# Altium integrated library Philips Microcontroller 8-Bit.IntLib: 472 symbols (part 17 of 17)
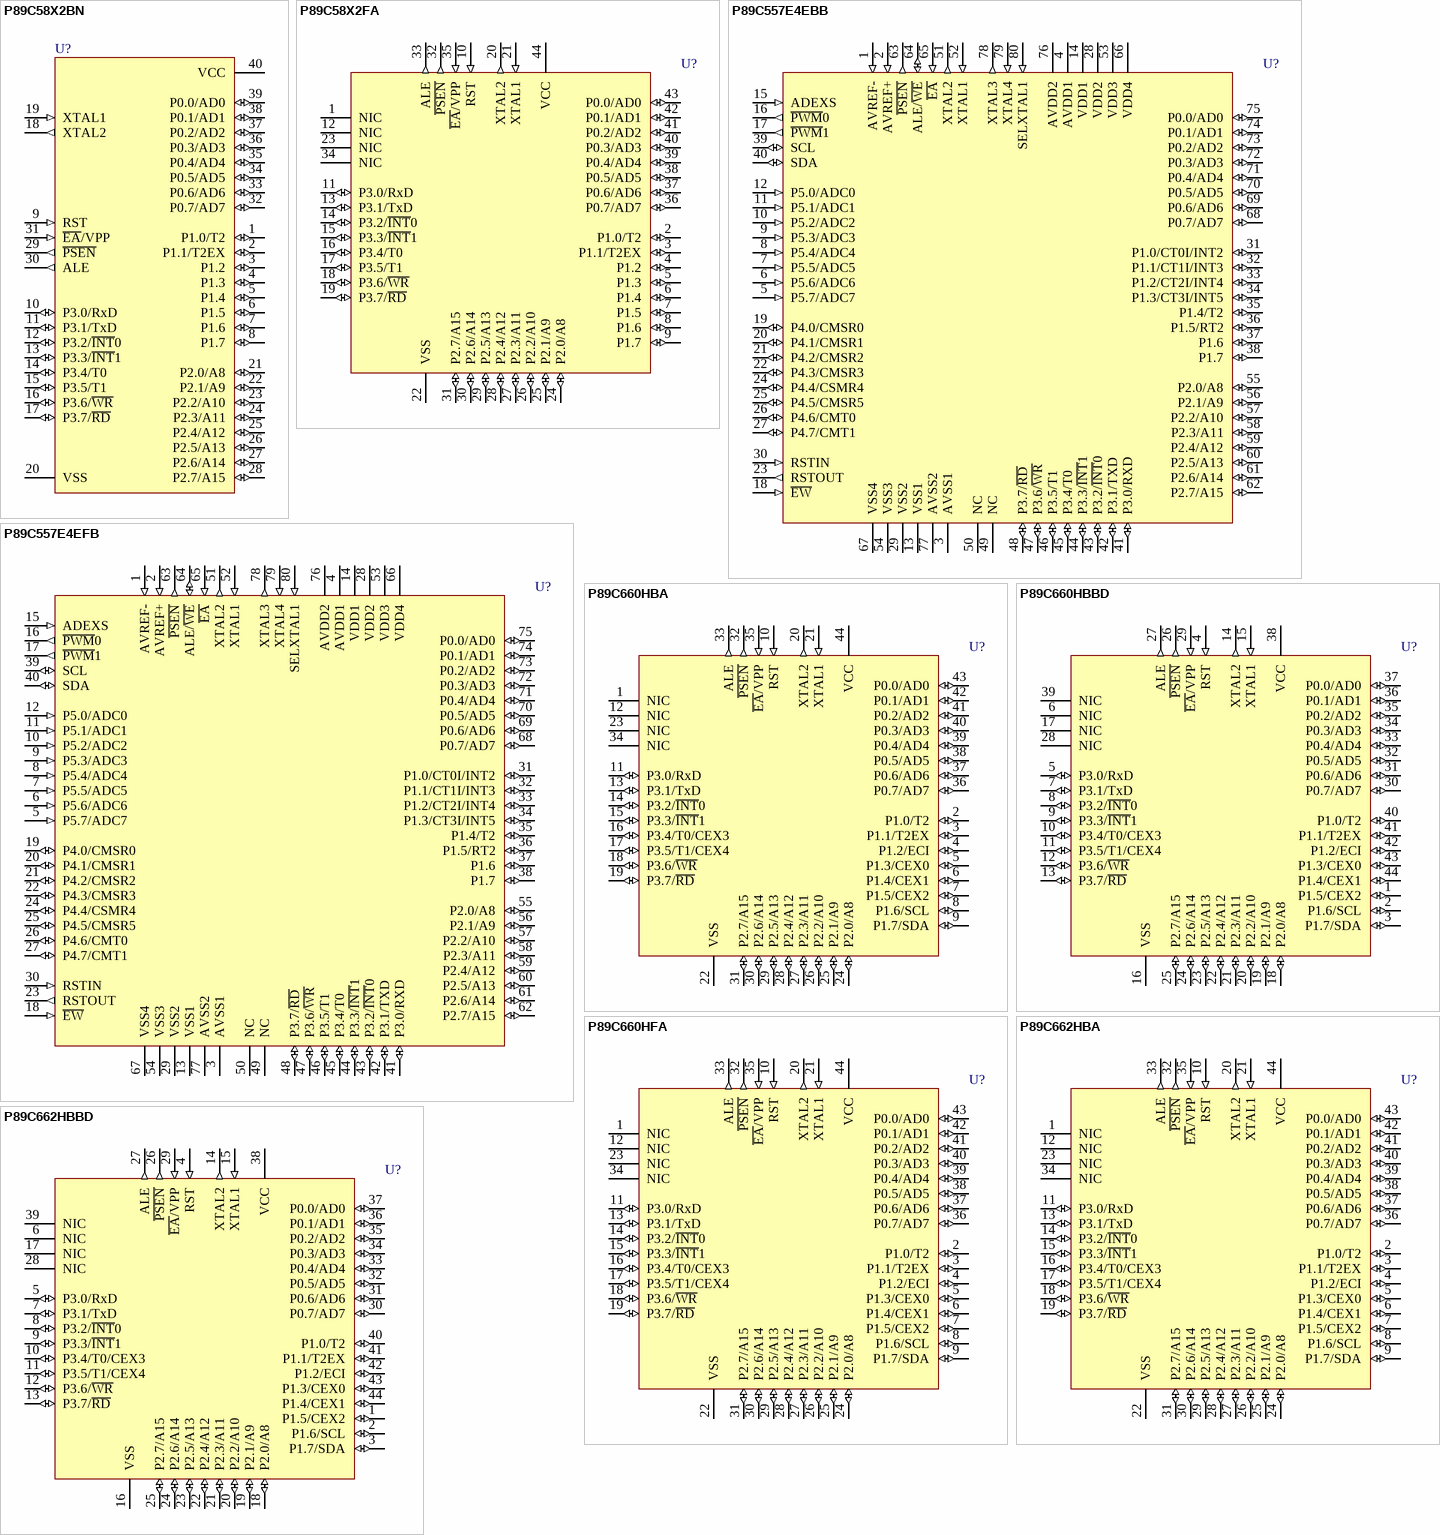
[diagram p62: symbols P89C58X2BN to P89C662HBBD]

## P89C660HBBD
designator U?
80C51 8-Bit Flash Microcontroller Family, 16 kB ISP/IAP Flash with 512 B RAM; Published: 21-May-2003; LatestRevisionDate: 13-Apr-2006; LatestRevisionNote: IPC-7351 Footprint Added.; DatasheetVersion: 28-Oct-2002; PackageVersion: Jan-2002; PackageReference: SOT389-1; Publisher: Altium Limited; PackageDescription: 44-Pin Thin Quad Flat Pack 0.8 mm Pitch; Code_JEDEC: MO-026; ComponentLink1Description: Manufacturer Link; ComponentLink1URL: http://www-us2.semiconductors.philips.com/; ComponentLink2Description: Datasheet; ComponentLink2URL: http://www.semiconductors.philips.com/acrobat/datasheets/P89C660_662_664_668_4.pdf
footprint SOT389-1_N (Thin QFP, 44-Leads, Body 10x10mm, Pitch 0.8mm, IPC Medium Density)
footprint SOT389-1_L (Thin QFP, 44-Leads, Body 10x10mm, Pitch 0.8mm, IPC High Density)
footprint SOT389-1_M (Thin QFP, 44-Leads, Body 10x10mm, Pitch 0.8mm, IPC Low Density)
pins: 1 P1.5/CEX2 (io), 2 P1.6/SCL (io), 3 P1.7/SDA (io), 4 RST (in), 5 P3.0/RxD (io), 6 NIC, 7 P3.1/TxD (io), 8 P3.2/~{INT}0 (io), 9 P3.3/~{INT}1 (io), 10 P3.4/T0/CEX3 (io), 11 P3.5/T1/CEX4 (io), 12 P3.6/~{WR} (io), 13 P3.7/~{RD} (io), 14 XTAL2 (out), 15 XTAL1 (in), 16 VSS (power), 17 NIC, 18 P2.0/A8 (io), 19 P2.1/A9 (io), 20 P2.2/A10 (io), 21 P2.3/A11 (io), 22 P2.4/A12 (io), 23 P2.5/A13 (io), 24 P2.6/A14 (io), 25 P2.7/A15 (io), 26 ~{PSEN} (out), 27 ALE (out), 28 NIC, 29 ~{EA}/VPP (in), 30 P0.7/AD7 (io), 31 P0.6/AD6 (io), 32 P0.5/AD5 (io), 33 P0.4/AD4 (io), 34 P0.3/AD3 (io), 35 P0.2/AD2 (io), 36 P0.1/AD1 (io), 37 P0.0/AD0 (io), 38 VCC (power), 39 NIC, 40 P1.0/T2 (io), 41 P1.1/T2EX (io), 42 P1.2/ECI (io), 43 P1.3/CEX0 (io), 44 P1.4/CEX1 (io)

## P89C660HFA
designator U?
80C51 8-Bit Flash Microcontroller Family, 16 kB ISP/IAP Flash with 512 B RAM; Published: 21-May-2003; LatestRevisionDate: 13-Apr-2006; LatestRevisionNote: IPC-7351 Footprint Added.; DatasheetVersion: 28-Oct-2002; PackageVersion: Jan-2000; PackageReference: SOT187-2; Publisher: Altium Limited; PackageDescription: 44-Pin Leaded Chip Carrier 1.27 mm Pitch; Code_JEDEC: MO-047AC; Code_IPC: PLCC-44; ComponentLink1Description: Manufacturer Link; ComponentLink1URL: http://www-us2.semiconductors.philips.com/; ComponentLink2Description: Datasheet; ComponentLink2URL: http://www.semiconductors.philips.com/acrobat/datasheets/P89C660_662_664_668_4.pdf
footprint SOT187-2_N (Leaded Chip Carrier, 44-Leads, Body 16.6x16.6mm, Pitch 1.27mm, IPC Medium Density)
footprint SOT187-2_L (Leaded Chip Carrier, 44-Leads, Body 16.6x16.6mm, Pitch 1.27mm, IPC High Density)
footprint SOT187-2_M (Leaded Chip Carrier, 44-Leads, Body 16.6x16.6mm, Pitch 1.27mm, IPC Low Density)
pins: 1 NIC, 2 P1.0/T2 (io), 3 P1.1/T2EX (io), 4 P1.2/ECI (io), 5 P1.3/CEX0 (io), 6 P1.4/CEX1 (io), 7 P1.5/CEX2 (io), 8 P1.6/SCL (io), 9 P1.7/SDA (io), 10 RST (in), 11 P3.0/RxD (io), 12 NIC, 13 P3.1/TxD (io), 14 P3.2/~{INT}0 (io), 15 P3.3/~{INT}1 (io), 16 P3.4/T0/CEX3 (io), 17 P3.5/T1/CEX4 (io), 18 P3.6/~{WR} (io), 19 P3.7/~{RD} (io), 20 XTAL2 (out), 21 XTAL1 (in), 22 VSS (power), 23 NIC, 24 P2.0/A8 (io), 25 P2.1/A9 (io), 26 P2.2/A10 (io), 27 P2.3/A11 (io), 28 P2.4/A12 (io), 29 P2.5/A13 (io), 30 P2.6/A14 (io), 31 P2.7/A15 (io), 32 ~{PSEN} (out), 33 ALE (out), 34 NIC, 35 ~{EA}/VPP (in), 36 P0.7/AD7 (io), 37 P0.6/AD6 (io), 38 P0.5/AD5 (io), 39 P0.4/AD4 (io), 40 P0.3/AD3 (io), 41 P0.2/AD2 (io), 42 P0.1/AD1 (io), 43 P0.0/AD0 (io), 44 VCC (power)

## P89C662HBA
designator U?
80C51 8-Bit Flash Microcontroller Family, 32 kB ISP/IAP Flash with 1 kB RAM; Published: 21-May-2003; LatestRevisionDate: 13-Apr-2006; LatestRevisionNote: IPC-7351 Footprint Added.; DatasheetVersion: 28-Oct-2002; PackageVersion: Jan-2000; PackageReference: SOT187-2; Publisher: Altium Limited; PackageDescription: 44-Pin Leaded Chip Carrier 1.27 mm Pitch; Code_JEDEC: MO-047AC; Code_IPC: PLCC-44; ComponentLink1Description: Manufacturer Link; ComponentLink1URL: http://www-us2.semiconductors.philips.com/; ComponentLink2Description: Datasheet; ComponentLink2URL: http://www.semiconductors.philips.com/acrobat/datasheets/P89C660_662_664_668_4.pdf
footprint SOT187-2_N (Leaded Chip Carrier, 44-Leads, Body 16.6x16.6mm, Pitch 1.27mm, IPC Medium Density)
footprint SOT187-2_L (Leaded Chip Carrier, 44-Leads, Body 16.6x16.6mm, Pitch 1.27mm, IPC High Density)
footprint SOT187-2_M (Leaded Chip Carrier, 44-Leads, Body 16.6x16.6mm, Pitch 1.27mm, IPC Low Density)
pins: 1 NIC, 2 P1.0/T2 (io), 3 P1.1/T2EX (io), 4 P1.2/ECI (io), 5 P1.3/CEX0 (io), 6 P1.4/CEX1 (io), 7 P1.5/CEX2 (io), 8 P1.6/SCL (io), 9 P1.7/SDA (io), 10 RST (in), 11 P3.0/RxD (io), 12 NIC, 13 P3.1/TxD (io), 14 P3.2/~{INT}0 (io), 15 P3.3/~{INT}1 (io), 16 P3.4/T0/CEX3 (io), 17 P3.5/T1/CEX4 (io), 18 P3.6/~{WR} (io), 19 P3.7/~{RD} (io), 20 XTAL2 (out), 21 XTAL1 (in), 22 VSS (power), 23 NIC, 24 P2.0/A8 (io), 25 P2.1/A9 (io), 26 P2.2/A10 (io), 27 P2.3/A11 (io), 28 P2.4/A12 (io), 29 P2.5/A13 (io), 30 P2.6/A14 (io), 31 P2.7/A15 (io), 32 ~{PSEN} (out), 33 ALE (out), 34 NIC, 35 ~{EA}/VPP (in), 36 P0.7/AD7 (io), 37 P0.6/AD6 (io), 38 P0.5/AD5 (io), 39 P0.4/AD4 (io), 40 P0.3/AD3 (io), 41 P0.2/AD2 (io), 42 P0.1/AD1 (io), 43 P0.0/AD0 (io), 44 VCC (power)

## P89C662HBBD
designator U?
80C51 8-Bit Flash Microcontroller Family, 32 kB ISP/IAP Flash with 1 kB RAM; Published: 21-May-2003; LatestRevisionDate: 13-Apr-2006; LatestRevisionNote: IPC-7351 Footprint Added.; DatasheetVersion: 28-Oct-2002; PackageVersion: Jan-2002; PackageReference: SOT389-1; Publisher: Altium Limited; PackageDescription: 44-Pin Thin Quad Flat Pack 0.8 mm Pitch; Code_JEDEC: MO-026; ComponentLink1Description: Manufacturer Link; ComponentLink1URL: http://www-us2.semiconductors.philips.com/; ComponentLink2Description: Datasheet; ComponentLink2URL: http://www.semiconductors.philips.com/acrobat/datasheets/P89C660_662_664_668_4.pdf
footprint SOT389-1_N (Thin QFP, 44-Leads, Body 10x10mm, Pitch 0.8mm, IPC Medium Density)
footprint SOT389-1_L (Thin QFP, 44-Leads, Body 10x10mm, Pitch 0.8mm, IPC High Density)
footprint SOT389-1_M (Thin QFP, 44-Leads, Body 10x10mm, Pitch 0.8mm, IPC Low Density)
pins: 1 P1.5/CEX2 (io), 2 P1.6/SCL (io), 3 P1.7/SDA (io), 4 RST (in), 5 P3.0/RxD (io), 6 NIC, 7 P3.1/TxD (io), 8 P3.2/~{INT}0 (io), 9 P3.3/~{INT}1 (io), 10 P3.4/T0/CEX3 (io), 11 P3.5/T1/CEX4 (io), 12 P3.6/~{WR} (io), 13 P3.7/~{RD} (io), 14 XTAL2 (out), 15 XTAL1 (in), 16 VSS (power), 17 NIC, 18 P2.0/A8 (io), 19 P2.1/A9 (io), 20 P2.2/A10 (io), 21 P2.3/A11 (io), 22 P2.4/A12 (io), 23 P2.5/A13 (io), 24 P2.6/A14 (io), 25 P2.7/A15 (io), 26 ~{PSEN} (out), 27 ALE (out), 28 NIC, 29 ~{EA}/VPP (in), 30 P0.7/AD7 (io), 31 P0.6/AD6 (io), 32 P0.5/AD5 (io), 33 P0.4/AD4 (io), 34 P0.3/AD3 (io), 35 P0.2/AD2 (io), 36 P0.1/AD1 (io), 37 P0.0/AD0 (io), 38 VCC (power), 39 NIC, 40 P1.0/T2 (io), 41 P1.1/T2EX (io), 42 P1.2/ECI (io), 43 P1.3/CEX0 (io), 44 P1.4/CEX1 (io)

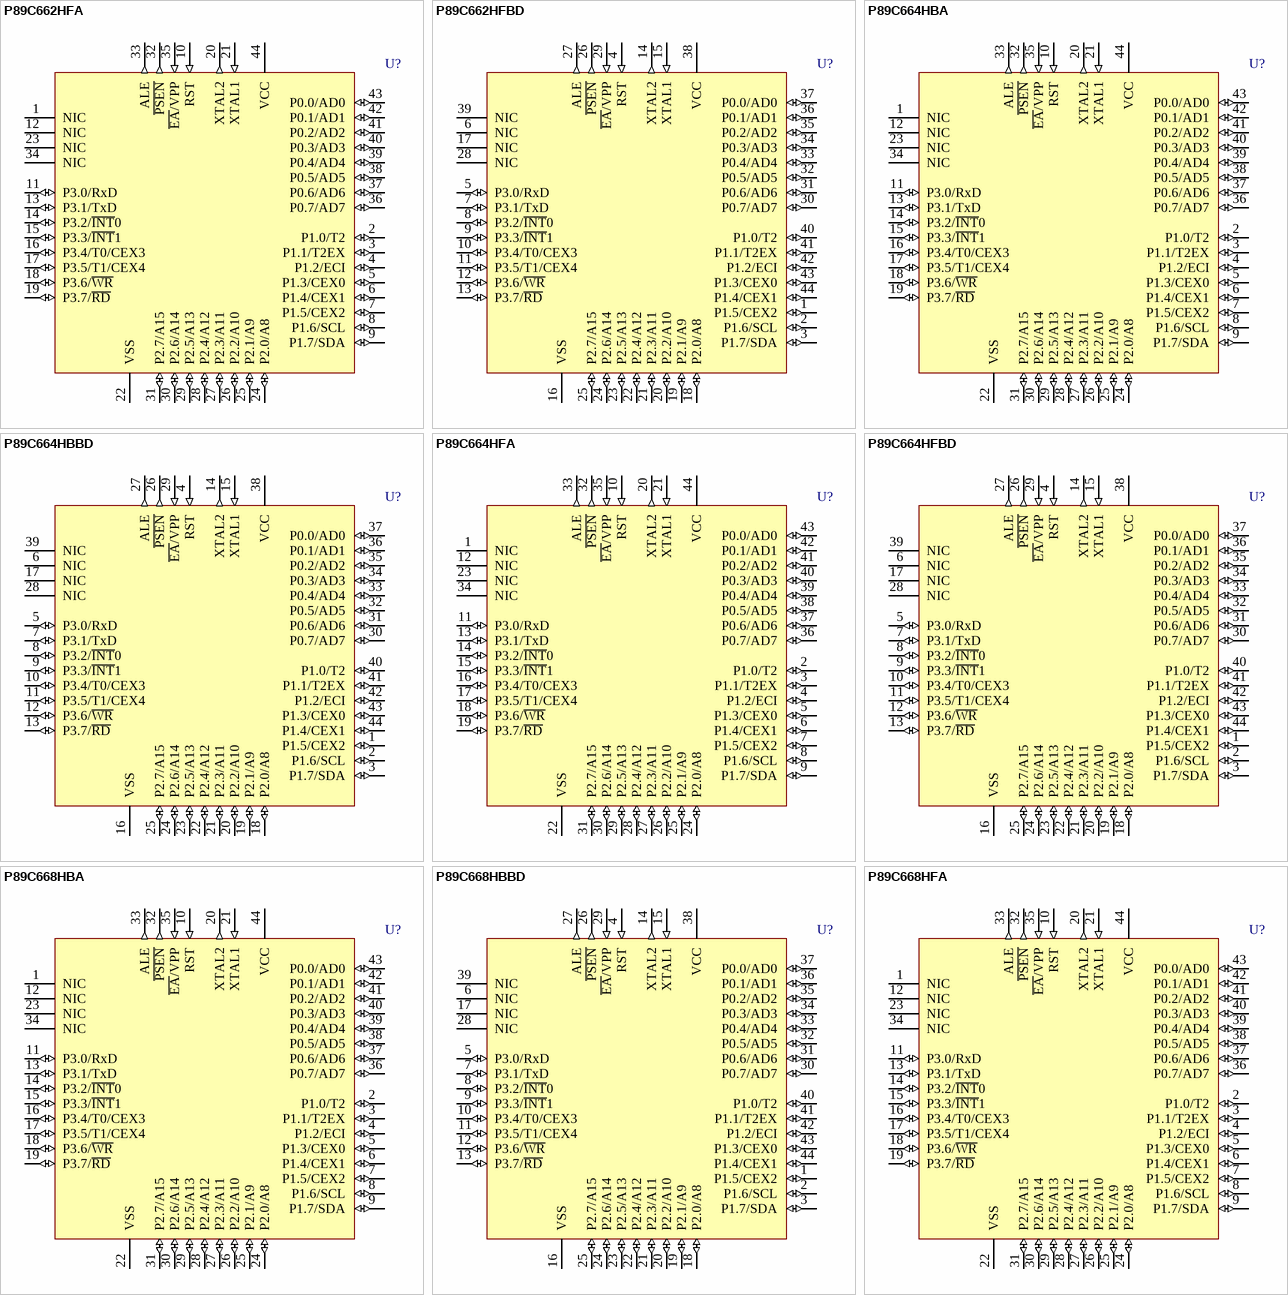
[diagram p45: symbols P89C662HFA to P89C668HFA]

## P89C662HFA
designator U?
80C51 8-Bit Flash Microcontroller Family, 32 kB ISP/IAP Flash with 1 kB RAM; Published: 21-May-2003; LatestRevisionDate: 13-Apr-2006; LatestRevisionNote: IPC-7351 Footprint Added.; DatasheetVersion: 28-Oct-2002; PackageVersion: Jan-2000; PackageReference: SOT187-2; Publisher: Altium Limited; PackageDescription: 44-Pin Leaded Chip Carrier 1.27 mm Pitch; Code_JEDEC: MO-047AC; Code_IPC: PLCC-44; ComponentLink1Description: Manufacturer Link; ComponentLink1URL: http://www-us2.semiconductors.philips.com/; ComponentLink2Description: Datasheet; ComponentLink2URL: http://www.semiconductors.philips.com/acrobat/datasheets/P89C660_662_664_668_4.pdf
footprint SOT187-2_N (Leaded Chip Carrier, 44-Leads, Body 16.6x16.6mm, Pitch 1.27mm, IPC Medium Density)
footprint SOT187-2_L (Leaded Chip Carrier, 44-Leads, Body 16.6x16.6mm, Pitch 1.27mm, IPC High Density)
footprint SOT187-2_M (Leaded Chip Carrier, 44-Leads, Body 16.6x16.6mm, Pitch 1.27mm, IPC Low Density)
pins: 1 NIC, 2 P1.0/T2 (io), 3 P1.1/T2EX (io), 4 P1.2/ECI (io), 5 P1.3/CEX0 (io), 6 P1.4/CEX1 (io), 7 P1.5/CEX2 (io), 8 P1.6/SCL (io), 9 P1.7/SDA (io), 10 RST (in), 11 P3.0/RxD (io), 12 NIC, 13 P3.1/TxD (io), 14 P3.2/~{INT}0 (io), 15 P3.3/~{INT}1 (io), 16 P3.4/T0/CEX3 (io), 17 P3.5/T1/CEX4 (io), 18 P3.6/~{WR} (io), 19 P3.7/~{RD} (io), 20 XTAL2 (out), 21 XTAL1 (in), 22 VSS (power), 23 NIC, 24 P2.0/A8 (io), 25 P2.1/A9 (io), 26 P2.2/A10 (io), 27 P2.3/A11 (io), 28 P2.4/A12 (io), 29 P2.5/A13 (io), 30 P2.6/A14 (io), 31 P2.7/A15 (io), 32 ~{PSEN} (out), 33 ALE (out), 34 NIC, 35 ~{EA}/VPP (in), 36 P0.7/AD7 (io), 37 P0.6/AD6 (io), 38 P0.5/AD5 (io), 39 P0.4/AD4 (io), 40 P0.3/AD3 (io), 41 P0.2/AD2 (io), 42 P0.1/AD1 (io), 43 P0.0/AD0 (io), 44 VCC (power)

## P89C662HFBD
designator U?
80C51 8-Bit Flash Microcontroller Family, 32 kB ISP/IAP Flash with 1 kB RAM; Published: 21-May-2003; LatestRevisionDate: 13-Apr-2006; LatestRevisionNote: IPC-7351 Footprint Added.; DatasheetVersion: 28-Oct-2002; PackageVersion: Jan-2002; PackageReference: SOT389-1; Publisher: Altium Limited; PackageDescription: 44-Pin Thin Quad Flat Pack 0.8 mm Pitch; Code_JEDEC: MO-026; ComponentLink1Description: Manufacturer Link; ComponentLink1URL: http://www-us2.semiconductors.philips.com/; ComponentLink2Description: Datasheet; ComponentLink2URL: http://www.semiconductors.philips.com/acrobat/datasheets/P89C660_662_664_668_4.pdf
footprint SOT389-1_N (Thin QFP, 44-Leads, Body 10x10mm, Pitch 0.8mm, IPC Medium Density)
footprint SOT389-1_L (Thin QFP, 44-Leads, Body 10x10mm, Pitch 0.8mm, IPC High Density)
footprint SOT389-1_M (Thin QFP, 44-Leads, Body 10x10mm, Pitch 0.8mm, IPC Low Density)
pins: 1 P1.5/CEX2 (io), 2 P1.6/SCL (io), 3 P1.7/SDA (io), 4 RST (in), 5 P3.0/RxD (io), 6 NIC, 7 P3.1/TxD (io), 8 P3.2/~{INT}0 (io), 9 P3.3/~{INT}1 (io), 10 P3.4/T0/CEX3 (io), 11 P3.5/T1/CEX4 (io), 12 P3.6/~{WR} (io), 13 P3.7/~{RD} (io), 14 XTAL2 (out), 15 XTAL1 (in), 16 VSS (power), 17 NIC, 18 P2.0/A8 (io), 19 P2.1/A9 (io), 20 P2.2/A10 (io), 21 P2.3/A11 (io), 22 P2.4/A12 (io), 23 P2.5/A13 (io), 24 P2.6/A14 (io), 25 P2.7/A15 (io), 26 ~{PSEN} (out), 27 ALE (out), 28 NIC, 29 ~{EA}/VPP (in), 30 P0.7/AD7 (io), 31 P0.6/AD6 (io), 32 P0.5/AD5 (io), 33 P0.4/AD4 (io), 34 P0.3/AD3 (io), 35 P0.2/AD2 (io), 36 P0.1/AD1 (io), 37 P0.0/AD0 (io), 38 VCC (power), 39 NIC, 40 P1.0/T2 (io), 41 P1.1/T2EX (io), 42 P1.2/ECI (io), 43 P1.3/CEX0 (io), 44 P1.4/CEX1 (io)

## P89C664HBA
designator U?
80C51 8-Bit Flash Microcontroller Family, 64 kB ISP/IAP Flash with 2 kB RAM; Published: 21-May-2003; LatestRevisionDate: 13-Apr-2006; LatestRevisionNote: IPC-7351 Footprint Added.; DatasheetVersion: 28-Oct-2002; PackageVersion: Jan-2000; PackageReference: SOT187-2; Publisher: Altium Limited; PackageDescription: 44-Pin Leaded Chip Carrier 1.27 mm Pitch; Code_JEDEC: MO-047AC; Code_IPC: PLCC-44; ComponentLink1Description: Manufacturer Link; ComponentLink1URL: http://www-us2.semiconductors.philips.com/; ComponentLink2Description: Datasheet; ComponentLink2URL: http://www.semiconductors.philips.com/acrobat/datasheets/P89C660_662_664_668_4.pdf
footprint SOT187-2_N (Leaded Chip Carrier, 44-Leads, Body 16.6x16.6mm, Pitch 1.27mm, IPC Medium Density)
footprint SOT187-2_L (Leaded Chip Carrier, 44-Leads, Body 16.6x16.6mm, Pitch 1.27mm, IPC High Density)
footprint SOT187-2_M (Leaded Chip Carrier, 44-Leads, Body 16.6x16.6mm, Pitch 1.27mm, IPC Low Density)
pins: 1 NIC, 2 P1.0/T2 (io), 3 P1.1/T2EX (io), 4 P1.2/ECI (io), 5 P1.3/CEX0 (io), 6 P1.4/CEX1 (io), 7 P1.5/CEX2 (io), 8 P1.6/SCL (io), 9 P1.7/SDA (io), 10 RST (in), 11 P3.0/RxD (io), 12 NIC, 13 P3.1/TxD (io), 14 P3.2/~{INT}0 (io), 15 P3.3/~{INT}1 (io), 16 P3.4/T0/CEX3 (io), 17 P3.5/T1/CEX4 (io), 18 P3.6/~{WR} (io), 19 P3.7/~{RD} (io), 20 XTAL2 (out), 21 XTAL1 (in), 22 VSS (power), 23 NIC, 24 P2.0/A8 (io), 25 P2.1/A9 (io), 26 P2.2/A10 (io), 27 P2.3/A11 (io), 28 P2.4/A12 (io), 29 P2.5/A13 (io), 30 P2.6/A14 (io), 31 P2.7/A15 (io), 32 ~{PSEN} (out), 33 ALE (out), 34 NIC, 35 ~{EA}/VPP (in), 36 P0.7/AD7 (io), 37 P0.6/AD6 (io), 38 P0.5/AD5 (io), 39 P0.4/AD4 (io), 40 P0.3/AD3 (io), 41 P0.2/AD2 (io), 42 P0.1/AD1 (io), 43 P0.0/AD0 (io), 44 VCC (power)

## P89C664HBBD
designator U?
80C51 8-Bit Flash Microcontroller Family, 64 kB ISP/IAP Flash with 2 kB RAM; Published: 21-May-2003; LatestRevisionDate: 13-Apr-2006; LatestRevisionNote: IPC-7351 Footprint Added.; DatasheetVersion: 28-Oct-2002; PackageVersion: Jan-2002; PackageReference: SOT389-1; Publisher: Altium Limited; PackageDescription: 44-Pin Thin Quad Flat Pack 0.8 mm Pitch; Code_JEDEC: MO-026; ComponentLink1Description: Manufacturer Link; ComponentLink1URL: http://www-us2.semiconductors.philips.com/; ComponentLink2Description: Datasheet; ComponentLink2URL: http://www.semiconductors.philips.com/acrobat/datasheets/P89C660_662_664_668_4.pdf
footprint SOT389-1_N (Thin QFP, 44-Leads, Body 10x10mm, Pitch 0.8mm, IPC Medium Density)
footprint SOT389-1_L (Thin QFP, 44-Leads, Body 10x10mm, Pitch 0.8mm, IPC High Density)
footprint SOT389-1_M (Thin QFP, 44-Leads, Body 10x10mm, Pitch 0.8mm, IPC Low Density)
pins: 1 P1.5/CEX2 (io), 2 P1.6/SCL (io), 3 P1.7/SDA (io), 4 RST (in), 5 P3.0/RxD (io), 6 NIC, 7 P3.1/TxD (io), 8 P3.2/~{INT}0 (io), 9 P3.3/~{INT}1 (io), 10 P3.4/T0/CEX3 (io), 11 P3.5/T1/CEX4 (io), 12 P3.6/~{WR} (io), 13 P3.7/~{RD} (io), 14 XTAL2 (out), 15 XTAL1 (in), 16 VSS (power), 17 NIC, 18 P2.0/A8 (io), 19 P2.1/A9 (io), 20 P2.2/A10 (io), 21 P2.3/A11 (io), 22 P2.4/A12 (io), 23 P2.5/A13 (io), 24 P2.6/A14 (io), 25 P2.7/A15 (io), 26 ~{PSEN} (out), 27 ALE (out), 28 NIC, 29 ~{EA}/VPP (in), 30 P0.7/AD7 (io), 31 P0.6/AD6 (io), 32 P0.5/AD5 (io), 33 P0.4/AD4 (io), 34 P0.3/AD3 (io), 35 P0.2/AD2 (io), 36 P0.1/AD1 (io), 37 P0.0/AD0 (io), 38 VCC (power), 39 NIC, 40 P1.0/T2 (io), 41 P1.1/T2EX (io), 42 P1.2/ECI (io), 43 P1.3/CEX0 (io), 44 P1.4/CEX1 (io)

## P89C664HFA
designator U?
80C51 8-Bit Flash Microcontroller Family, 64 kB ISP/IAP Flash with 2 kB RAM; Published: 21-May-2003; LatestRevisionDate: 13-Apr-2006; LatestRevisionNote: IPC-7351 Footprint Added.; DatasheetVersion: 28-Oct-2002; PackageVersion: Jan-2000; PackageReference: SOT187-2; Publisher: Altium Limited; PackageDescription: 44-Pin Leaded Chip Carrier 1.27 mm Pitch; Code_JEDEC: MO-047AC; Code_IPC: PLCC-44; ComponentLink1Description: Manufacturer Link; ComponentLink1URL: http://www-us2.semiconductors.philips.com/; ComponentLink2Description: Datasheet; ComponentLink2URL: http://www.semiconductors.philips.com/acrobat/datasheets/P89C660_662_664_668_4.pdf
footprint SOT187-2_N (Leaded Chip Carrier, 44-Leads, Body 16.6x16.6mm, Pitch 1.27mm, IPC Medium Density)
footprint SOT187-2_L (Leaded Chip Carrier, 44-Leads, Body 16.6x16.6mm, Pitch 1.27mm, IPC High Density)
footprint SOT187-2_M (Leaded Chip Carrier, 44-Leads, Body 16.6x16.6mm, Pitch 1.27mm, IPC Low Density)
pins: 1 NIC, 2 P1.0/T2 (io), 3 P1.1/T2EX (io), 4 P1.2/ECI (io), 5 P1.3/CEX0 (io), 6 P1.4/CEX1 (io), 7 P1.5/CEX2 (io), 8 P1.6/SCL (io), 9 P1.7/SDA (io), 10 RST (in), 11 P3.0/RxD (io), 12 NIC, 13 P3.1/TxD (io), 14 P3.2/~{INT}0 (io), 15 P3.3/~{INT}1 (io), 16 P3.4/T0/CEX3 (io), 17 P3.5/T1/CEX4 (io), 18 P3.6/~{WR} (io), 19 P3.7/~{RD} (io), 20 XTAL2 (out), 21 XTAL1 (in), 22 VSS (power), 23 NIC, 24 P2.0/A8 (io), 25 P2.1/A9 (io), 26 P2.2/A10 (io), 27 P2.3/A11 (io), 28 P2.4/A12 (io), 29 P2.5/A13 (io), 30 P2.6/A14 (io), 31 P2.7/A15 (io), 32 ~{PSEN} (out), 33 ALE (out), 34 NIC, 35 ~{EA}/VPP (in), 36 P0.7/AD7 (io), 37 P0.6/AD6 (io), 38 P0.5/AD5 (io), 39 P0.4/AD4 (io), 40 P0.3/AD3 (io), 41 P0.2/AD2 (io), 42 P0.1/AD1 (io), 43 P0.0/AD0 (io), 44 VCC (power)

## P89C664HFBD
designator U?
80C51 8-Bit Flash Microcontroller Family, 64 kB ISP/IAP Flash with 2 kB RAM; Published: 21-May-2003; LatestRevisionDate: 13-Apr-2006; LatestRevisionNote: IPC-7351 Footprint Added.; DatasheetVersion: 28-Oct-2002; PackageVersion: Jan-2002; PackageReference: SOT389-1; Publisher: Altium Limited; PackageDescription: 44-Pin Thin Quad Flat Pack 0.8 mm Pitch; Code_JEDEC: MO-026; ComponentLink1Description: Manufacturer Link; ComponentLink1URL: http://www-us2.semiconductors.philips.com/; ComponentLink2Description: Datasheet; ComponentLink2URL: http://www.semiconductors.philips.com/acrobat/datasheets/P89C660_662_664_668_4.pdf
footprint SOT389-1_N (Thin QFP, 44-Leads, Body 10x10mm, Pitch 0.8mm, IPC Medium Density)
footprint SOT389-1_L (Thin QFP, 44-Leads, Body 10x10mm, Pitch 0.8mm, IPC High Density)
footprint SOT389-1_M (Thin QFP, 44-Leads, Body 10x10mm, Pitch 0.8mm, IPC Low Density)
pins: 1 P1.5/CEX2 (io), 2 P1.6/SCL (io), 3 P1.7/SDA (io), 4 RST (in), 5 P3.0/RxD (io), 6 NIC, 7 P3.1/TxD (io), 8 P3.2/~{INT}0 (io), 9 P3.3/~{INT}1 (io), 10 P3.4/T0/CEX3 (io), 11 P3.5/T1/CEX4 (io), 12 P3.6/~{WR} (io), 13 P3.7/~{RD} (io), 14 XTAL2 (out), 15 XTAL1 (in), 16 VSS (power), 17 NIC, 18 P2.0/A8 (io), 19 P2.1/A9 (io), 20 P2.2/A10 (io), 21 P2.3/A11 (io), 22 P2.4/A12 (io), 23 P2.5/A13 (io), 24 P2.6/A14 (io), 25 P2.7/A15 (io), 26 ~{PSEN} (out), 27 ALE (out), 28 NIC, 29 ~{EA}/VPP (in), 30 P0.7/AD7 (io), 31 P0.6/AD6 (io), 32 P0.5/AD5 (io), 33 P0.4/AD4 (io), 34 P0.3/AD3 (io), 35 P0.2/AD2 (io), 36 P0.1/AD1 (io), 37 P0.0/AD0 (io), 38 VCC (power), 39 NIC, 40 P1.0/T2 (io), 41 P1.1/T2EX (io), 42 P1.2/ECI (io), 43 P1.3/CEX0 (io), 44 P1.4/CEX1 (io)

## P89C668HBA
designator U?
80C51 8-Bit Flash Microcontroller Family, 64 kB ISP/IAP Flash with 8 kB RAM; Published: 21-May-2003; LatestRevisionDate: 13-Apr-2006; LatestRevisionNote: IPC-7351 Footprint Added.; DatasheetVersion: 28-Oct-2002; PackageVersion: Jan-2000; PackageReference: SOT187-2; Publisher: Altium Limited; PackageDescription: 44-Pin Leaded Chip Carrier 1.27 mm Pitch; Code_JEDEC: MO-047AC; Code_IPC: PLCC-44; ComponentLink1Description: Manufacturer Link; ComponentLink1URL: http://www-us2.semiconductors.philips.com/; ComponentLink2Description: Datasheet; ComponentLink2URL: http://www.semiconductors.philips.com/acrobat/datasheets/P89C660_662_664_668_4.pdf
footprint SOT187-2_N (Leaded Chip Carrier, 44-Leads, Body 16.6x16.6mm, Pitch 1.27mm, IPC Medium Density)
footprint SOT187-2_L (Leaded Chip Carrier, 44-Leads, Body 16.6x16.6mm, Pitch 1.27mm, IPC High Density)
footprint SOT187-2_M (Leaded Chip Carrier, 44-Leads, Body 16.6x16.6mm, Pitch 1.27mm, IPC Low Density)
pins: 1 NIC, 2 P1.0/T2 (io), 3 P1.1/T2EX (io), 4 P1.2/ECI (io), 5 P1.3/CEX0 (io), 6 P1.4/CEX1 (io), 7 P1.5/CEX2 (io), 8 P1.6/SCL (io), 9 P1.7/SDA (io), 10 RST (in), 11 P3.0/RxD (io), 12 NIC, 13 P3.1/TxD (io), 14 P3.2/~{INT}0 (io), 15 P3.3/~{INT}1 (io), 16 P3.4/T0/CEX3 (io), 17 P3.5/T1/CEX4 (io), 18 P3.6/~{WR} (io), 19 P3.7/~{RD} (io), 20 XTAL2 (out), 21 XTAL1 (in), 22 VSS (power), 23 NIC, 24 P2.0/A8 (io), 25 P2.1/A9 (io), 26 P2.2/A10 (io), 27 P2.3/A11 (io), 28 P2.4/A12 (io), 29 P2.5/A13 (io), 30 P2.6/A14 (io), 31 P2.7/A15 (io), 32 ~{PSEN} (out), 33 ALE (out), 34 NIC, 35 ~{EA}/VPP (in), 36 P0.7/AD7 (io), 37 P0.6/AD6 (io), 38 P0.5/AD5 (io), 39 P0.4/AD4 (io), 40 P0.3/AD3 (io), 41 P0.2/AD2 (io), 42 P0.1/AD1 (io), 43 P0.0/AD0 (io), 44 VCC (power)

## P89C668HBBD
designator U?
80C51 8-Bit Flash Microcontroller Family, 64 kB ISP/IAP Flash with 8 kB RAM; Published: 21-May-2003; LatestRevisionDate: 13-Apr-2006; LatestRevisionNote: IPC-7351 Footprint Added.; DatasheetVersion: 28-Oct-2002; PackageVersion: Jan-2002; PackageReference: SOT389-1; Publisher: Altium Limited; PackageDescription: 44-Pin Thin Quad Flat Pack 0.8 mm Pitch; Code_JEDEC: MO-026; ComponentLink1Description: Manufacturer Link; ComponentLink1URL: http://www-us2.semiconductors.philips.com/; ComponentLink2Description: Datasheet; ComponentLink2URL: http://www.semiconductors.philips.com/acrobat/datasheets/P89C660_662_664_668_4.pdf
footprint SOT389-1_N (Thin QFP, 44-Leads, Body 10x10mm, Pitch 0.8mm, IPC Medium Density)
footprint SOT389-1_L (Thin QFP, 44-Leads, Body 10x10mm, Pitch 0.8mm, IPC High Density)
footprint SOT389-1_M (Thin QFP, 44-Leads, Body 10x10mm, Pitch 0.8mm, IPC Low Density)
pins: 1 P1.5/CEX2 (io), 2 P1.6/SCL (io), 3 P1.7/SDA (io), 4 RST (in), 5 P3.0/RxD (io), 6 NIC, 7 P3.1/TxD (io), 8 P3.2/~{INT}0 (io), 9 P3.3/~{INT}1 (io), 10 P3.4/T0/CEX3 (io), 11 P3.5/T1/CEX4 (io), 12 P3.6/~{WR} (io), 13 P3.7/~{RD} (io), 14 XTAL2 (out), 15 XTAL1 (in), 16 VSS (power), 17 NIC, 18 P2.0/A8 (io), 19 P2.1/A9 (io), 20 P2.2/A10 (io), 21 P2.3/A11 (io), 22 P2.4/A12 (io), 23 P2.5/A13 (io), 24 P2.6/A14 (io), 25 P2.7/A15 (io), 26 ~{PSEN} (out), 27 ALE (out), 28 NIC, 29 ~{EA}/VPP (in), 30 P0.7/AD7 (io), 31 P0.6/AD6 (io), 32 P0.5/AD5 (io), 33 P0.4/AD4 (io), 34 P0.3/AD3 (io), 35 P0.2/AD2 (io), 36 P0.1/AD1 (io), 37 P0.0/AD0 (io), 38 VCC (power), 39 NIC, 40 P1.0/T2 (io), 41 P1.1/T2EX (io), 42 P1.2/ECI (io), 43 P1.3/CEX0 (io), 44 P1.4/CEX1 (io)

## P89C668HFA
designator U?
80C51 8-Bit Flash Microcontroller Family, 64 kB ISP/IAP Flash with 8 kB RAM; Published: 21-May-2003; LatestRevisionDate: 13-Apr-2006; LatestRevisionNote: IPC-7351 Footprint Added.; DatasheetVersion: 28-Oct-2002; PackageVersion: Jan-2000; PackageReference: SOT187-2; Publisher: Altium Limited; PackageDescription: 44-Pin Leaded Chip Carrier 1.27 mm Pitch; Code_JEDEC: MO-047AC; Code_IPC: PLCC-44; ComponentLink1Description: Manufacturer Link; ComponentLink1URL: http://www-us2.semiconductors.philips.com/; ComponentLink2Description: Datasheet; ComponentLink2URL: http://www.semiconductors.philips.com/acrobat/datasheets/P89C660_662_664_668_4.pdf
footprint SOT187-2_N (Leaded Chip Carrier, 44-Leads, Body 16.6x16.6mm, Pitch 1.27mm, IPC Medium Density)
footprint SOT187-2_L (Leaded Chip Carrier, 44-Leads, Body 16.6x16.6mm, Pitch 1.27mm, IPC High Density)
footprint SOT187-2_M (Leaded Chip Carrier, 44-Leads, Body 16.6x16.6mm, Pitch 1.27mm, IPC Low Density)
pins: 1 NIC, 2 P1.0/T2 (io), 3 P1.1/T2EX (io), 4 P1.2/ECI (io), 5 P1.3/CEX0 (io), 6 P1.4/CEX1 (io), 7 P1.5/CEX2 (io), 8 P1.6/SCL (io), 9 P1.7/SDA (io), 10 RST (in), 11 P3.0/RxD (io), 12 NIC, 13 P3.1/TxD (io), 14 P3.2/~{INT}0 (io), 15 P3.3/~{INT}1 (io), 16 P3.4/T0/CEX3 (io), 17 P3.5/T1/CEX4 (io), 18 P3.6/~{WR} (io), 19 P3.7/~{RD} (io), 20 XTAL2 (out), 21 XTAL1 (in), 22 VSS (power), 23 NIC, 24 P2.0/A8 (io), 25 P2.1/A9 (io), 26 P2.2/A10 (io), 27 P2.3/A11 (io), 28 P2.4/A12 (io), 29 P2.5/A13 (io), 30 P2.6/A14 (io), 31 P2.7/A15 (io), 32 ~{PSEN} (out), 33 ALE (out), 34 NIC, 35 ~{EA}/VPP (in), 36 P0.7/AD7 (io), 37 P0.6/AD6 (io), 38 P0.5/AD5 (io), 39 P0.4/AD4 (io), 40 P0.3/AD3 (io), 41 P0.2/AD2 (io), 42 P0.1/AD1 (io), 43 P0.0/AD0 (io), 44 VCC (power)

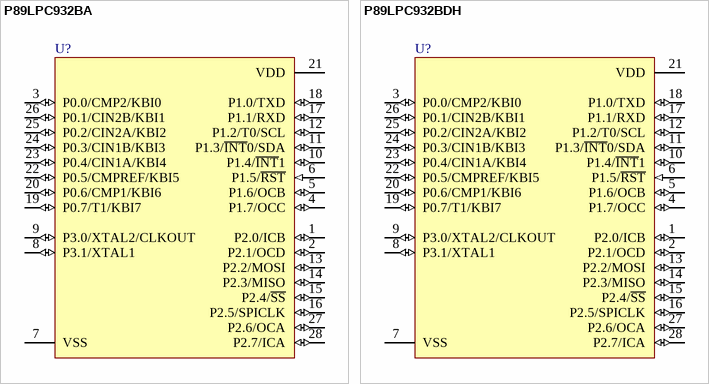
[diagram p46: symbols P89LPC932BA to P89LPC932BDH]

## P89LPC932BA
designator U?
80C51 8-Bit Microcontroller with Two-Clock Core, 8 kB 3 V Low-Power Flash with 512 B Data EEPROM; Published: 21-May-2003; LatestRevisionDate: 13-Apr-2006; LatestRevisionNote: IPC-7351 Footprint Added.; DatasheetVersion: 21-Oct-2002; PackageVersion: Oct-2002; PackageReference: SOT261-2; Publisher: Altium Limited; PackageDescription: 28-Pin Leaded Chip Carrier 1.27 mm Pitch; Code_JEDEC: MS-018; Code_IPC: PLCC-28; ComponentLink1Description: Manufacturer Link; ComponentLink1URL: http://www-us2.semiconductors.philips.com/; ComponentLink2Description: Discontinuation Notice; ComponentLink2URL: Introduction|http://www.semiconductors.philips.com/acrobat_download/literature/9397/75011343.pdf
footprint SOT261-2_N (Leaded Chip Carrier, 28-Leads, Body 11.5x11.5mm, Pitch 1.27mm, IPC Medium Density)
footprint SOT261-2_L (Leaded Chip Carrier, 28-Leads, Body 11.5x11.5mm, Pitch 1.27mm, IPC High Density)
footprint SOT261-2_M (Leaded Chip Carrier, 28-Leads, Body 11.5x11.5mm, Pitch 1.27mm, IPC Low Density)
pins: 1 P2.0/ICB (io), 2 P2.1/OCD (io), 3 P0.0/CMP2/KBI0 (io), 4 P1.7/OCC (io), 5 P1.6/OCB (io), 6 P1.5/~{RST} (in), 7 VSS (power), 8 P3.1/XTAL1 (io), 9 P3.0/XTAL2/CLKOUT (io), 10 P1.4/~{INT}1 (io), 11 P1.3/~{INT}0/SDA (io), 12 P1.2/T0/SCL (io), 13 P2.2/MOSI (io), 14 P2.3/MISO (io), 15 P2.4/~{SS} (io), 16 P2.5/SPICLK (io), 17 P1.1/RXD (io), 18 P1.0/TXD (io), 19 P0.7/T1/KBI7 (io), 20 P0.6/CMP1/KBI6 (io), 21 VDD (power), 22 P0.5/CMPREF/KBI5 (io), 23 P0.4/CIN1A/KBI4 (io), 24 P0.3/CIN1B/KBI3 (io), 25 P0.2/CIN2A/KBI2 (io), 26 P0.1/CIN2B/KBI1 (io), 27 P2.6/OCA (io), 28 P2.7/ICA (io)

## P89LPC932BDH
designator U?
80C51 8-Bit Microcontroller with Two-Clock Core, 8 kB 3 V Low-Power Flash with 512 B Data EEPROM; Published: 21-May-2003; DatasheetVersion: 21-Oct-2002; PackageVersion: Oct-2002; PackageReference: SOT361-1; Publisher: Altium Limited; PackageDescription: Shrink Small Outline; 28 Leads; Body Width 4.4 mm; Pitch 0.65 mm; Code_JEDEC: MO-153; ComponentLink1Description: Manufacturer Link; ComponentLink1URL: http://www-us2.semiconductors.philips.com/; ComponentLink2Description: Discontinuation Notice; ComponentLink2URL: Introduction|http://www.semiconductors.philips.com/acrobat_download/literature/9397/75011343.pdf
footprint SOT361-1 (Shrink Small Outline; 28 Leads; Body Width 4.4 mm; Pitch 0.65 mm)
pins: 1 P2.0/ICB (io), 2 P2.1/OCD (io), 3 P0.0/CMP2/KBI0 (io), 4 P1.7/OCC (io), 5 P1.6/OCB (io), 6 P1.5/~{RST} (in), 7 VSS (power), 8 P3.1/XTAL1 (io), 9 P3.0/XTAL2/CLKOUT (io), 10 P1.4/~{INT}1 (io), 11 P1.3/~{INT}0/SDA (io), 12 P1.2/T0/SCL (io), 13 P2.2/MOSI (io), 14 P2.3/MISO (io), 15 P2.4/~{SS} (io), 16 P2.5/SPICLK (io), 17 P1.1/RXD (io), 18 P1.0/TXD (io), 19 P0.7/T1/KBI7 (io), 20 P0.6/CMP1/KBI6 (io), 21 VDD (power), 22 P0.5/CMPREF/KBI5 (io), 23 P0.4/CIN1A/KBI4 (io), 24 P0.3/CIN1B/KBI3 (io), 25 P0.2/CIN2A/KBI2 (io), 26 P0.1/CIN2B/KBI1 (io), 27 P2.6/OCA (io), 28 P2.7/ICA (io)